# Altium footprint library THU VIEN.PcbLib: 20 footprints (part 2 of 2)
Each footprint in its own frame and in the unit in brackets; x right, y up, seen from the top. Pads: shape width x height; smd on the part's side, far side on the other; paste and mask are expansions set on the pad; w line width, h text height; cw(c..) or ccw(c..) is an arc to the next point about the centre after c.
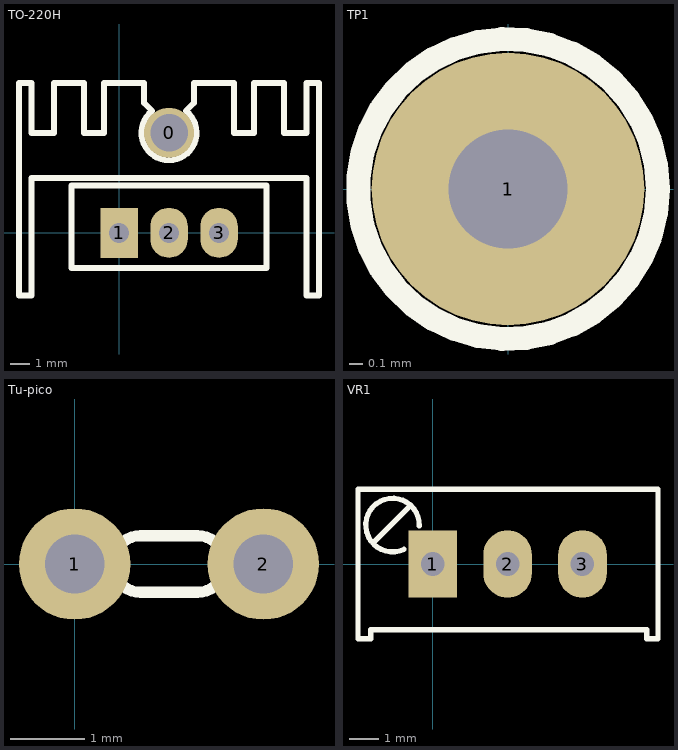
[diagram p1: the footprints below, top view; thin cyan lines are the x and y axes]

## TO-220H [mil]
pads (4):
  round 100 hole 75: 0(100,200)
  rect 75x100 hole 40: 1(0,0)
  oval 75x100 hole 40: 2(100,0) 3(200,0)
Top Overlay:
  lines w12: 66,244 50,260 50,300 -30,300 -30,200 -70,200 -70,300 -130,300 -130,200 -175,200 -175,300 -200,300 -200,-125 -175,-125 -175,110 375,110 375,-125 400,-125 400,300 375,300 375,200 330,200 330,300 270,300 270,200 230,200 230,300 150,300 150,260 133.59,243.59 ; 66.37,243.52 ccw(c100,200) 133.77,243.41 ; -95,-70 -95,95 295,95 295,-70 -95,-70
3D body "SW3dPS-heatsink TO126.STEP": height 984.25, standoff -149.61, extent -189.97,-102.25 391.97,323
3D body "User Library-TO-220-1.STEP": height 322.83, standoff -810.24, extent -96.88,-76.17 292.88,101

## TP1 [mil] "Test point"
height 150
pads (1):
  round 80 hole 35: 1(0,0)
Top Overlay:
  circle w7: c0,0 r44.01
3D body "socket 1-1.stp": height 178.11, standoff -114.41, extent -50,-50 50,50

## Tu-pico [mm] "Tu gom mini"
pads (2):
  round 1.5 hole 0.8: 1(0,0) 2(2.54,0)
Top Overlay:
  lines w0.15: 0.889,-0.381 cw(c0.889,0) 0.889,0.381 1.651,0.381 cw(c1.651,0) 1.651,-0.381 0.889,-0.381
3D body "User Library-Cap 100n.step": height 6.12, standoff -1.8, extent -1.647,-0.848 4.191,0.848

## VR1 [mil] "Variable Resistor"
height 400
pads (3):
  rect 65x90 hole 31.5: 1(0,0)
  oval 65x90 hole 31.5: 2(100,0) 3(200,0)
Top Overlay:
  lines w7: -80,28 -30,78 ; -38.6,19.63 cw(c-53.79,52.05) -18.01,50.77 ; -100,-100 -100,100 301,100 301,-100 286,-100 286,-88 -83,-88 -83,-100 -100,-100
3D body "SW3dPS-Bourns_3299W.STEP": height 455, standoff -45, extent -87.5,-130 287.5,110